# EAGLE library part SI82397 (library Power > Gate Drivers)
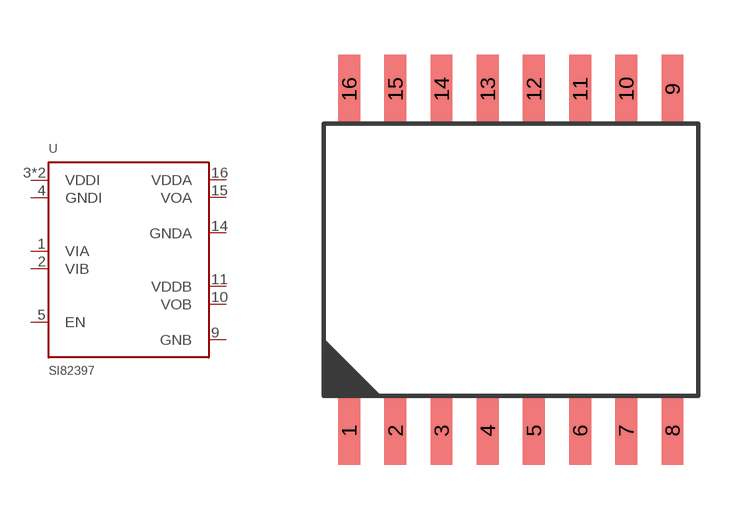
[diagram p0: symbol with the pads of SOIC-16-WB; footprint SOIC-16-WB]

Designator prefix U

## SI82397  [SOIC-16-WB]
1  VIA
2  VIB
3  VDDI
4  GNDI
5  EN
8  VDDI
9  GNB
10  VOB
11  VDDB
14  GNDA
15  VOA
16  VDDA

## Footprint SOIC-16-WB (pad centres in mm)
smd 0.6 x 1.9: 1 -4.445,-4.7; 2 -3.175,-4.7; 3 -1.905,-4.7; 4 -0.635,-4.7; 5 0.635,-4.7; 6 1.905,-4.7; 7 3.175,-4.7; 8 4.445,-4.7; 9 4.445,4.7; 10 3.175,4.7; 11 1.905,4.7; 12 0.635,4.7; 13 -0.635,4.7; 14 -1.905,4.7; 15 -3.175,4.7; 16 -4.445,4.7